# EAGLE library part LM3352 (library kamiki)
Switched Capacitor DC-DC Converter Regulated 200mA, Buck-Boost Switched Capacitor DC/DC Converter
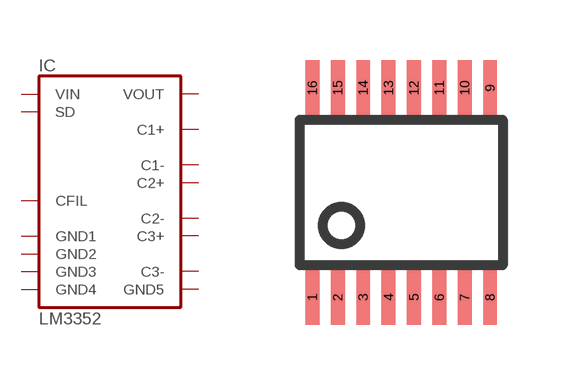
[diagram p19: symbol with the pads of TSSOP16; footprint TSSOP16]

Designator prefix IC

## LM3352  [TSSOP16]
1  GND1  pwr
2  C3-  pas
3  C3+  pas
4  C2-  pas
5  C2+  pas
6  C1-  pas
7  C1+  pas
8  VOUT  out
9  GND2  pwr
10  VIN  pwr
12  GND3  pwr
13  SD  in
14  GND4  pwr
15  CFIL  pas
16  GND5  pwr

## Footprint TSSOP16 (pad centres in mm)
Small Shrink Outline Package
smd 0.348 x 1.397: 1 -2.223,-2.619; 2 -1.588,-2.62; 3 -0.953,-2.62; 4 -0.318,-2.62; 5 0.318,-2.62; 6 0.953,-2.62; 7 1.588,-2.62; 8 2.223,-2.62; 9 2.223,2.62; 10 1.588,2.62; 11 0.953,2.62; 12 0.318,2.62; 13 -0.318,2.62; 14 -0.953,2.62; 15 -1.588,2.62; 16 -2.223,2.62